# Altium footprint library LTST-E683CEGBW.PcbLib: 1 footprints
Each footprint in its own frame and in the unit in brackets; x right, y up, seen from the top. Pads: shape width x height; smd on the part's side, far side on the other; paste and mask are expansions set on the pad; w line width, h text height; cw(c..) or ccw(c..) is an arc to the next point about the centre after c.
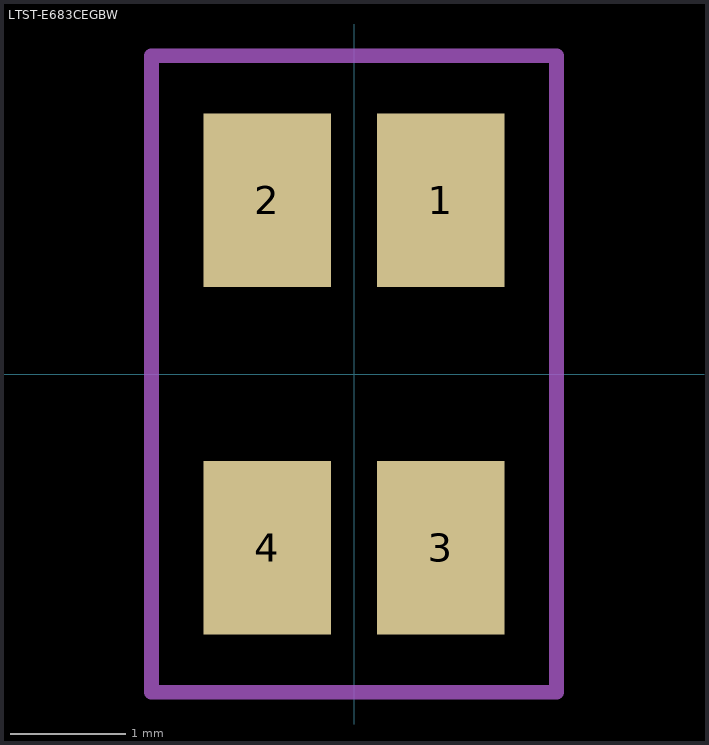
[diagram p0: the footprint, top view; thin cyan lines are the x and y axes]

## LTST-E683CEGBW [mm]
height 1.9
pads (4):
  rect 1.1x1.5 smd: 1(0.75,1.5) 2(-0.75,1.5) 3(0.75,-1.5) 4(-0.75,-1.5)
Mechanical 15:
  lines w0.127: -1.75,-2.75 1.75,-2.75 1.75,2.75 -1.75,2.75 -1.75,-2.75
3D body: height 1.9, standoff 0, extent -1.3,-1.75 1.3,1.75